# Altium schematic symbol library RJHSE538B.SchLib: 1 symbol
Pins are listed as number, name and electrical type; pins without a type are passive.

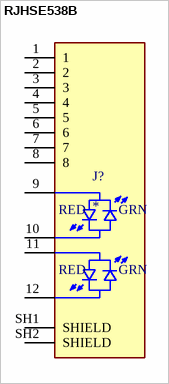
[diagram p0: symbol RJHSE538B]

## RJHSE538B
designator J?
MF: {'manufacturer': u'Amphenol ICC (Commercial Products)'}; MP: RJHSE538B; Package: None; Price: None; Value: *; Availability: Unavailable
footprint AMPHENOL_RJHSE538B
pins: 1, 2, 3, 4, 5, 6, 7, 8, 9, 10, 11, 12, SH1 SHIELD, SH2 SHIELD
text: RED; GRN